# Altium schematic symbol library jetson-orin-baseboard.SchLib: 177 symbols
Pins are listed as number, name and electrical type; pins without a type are passive.

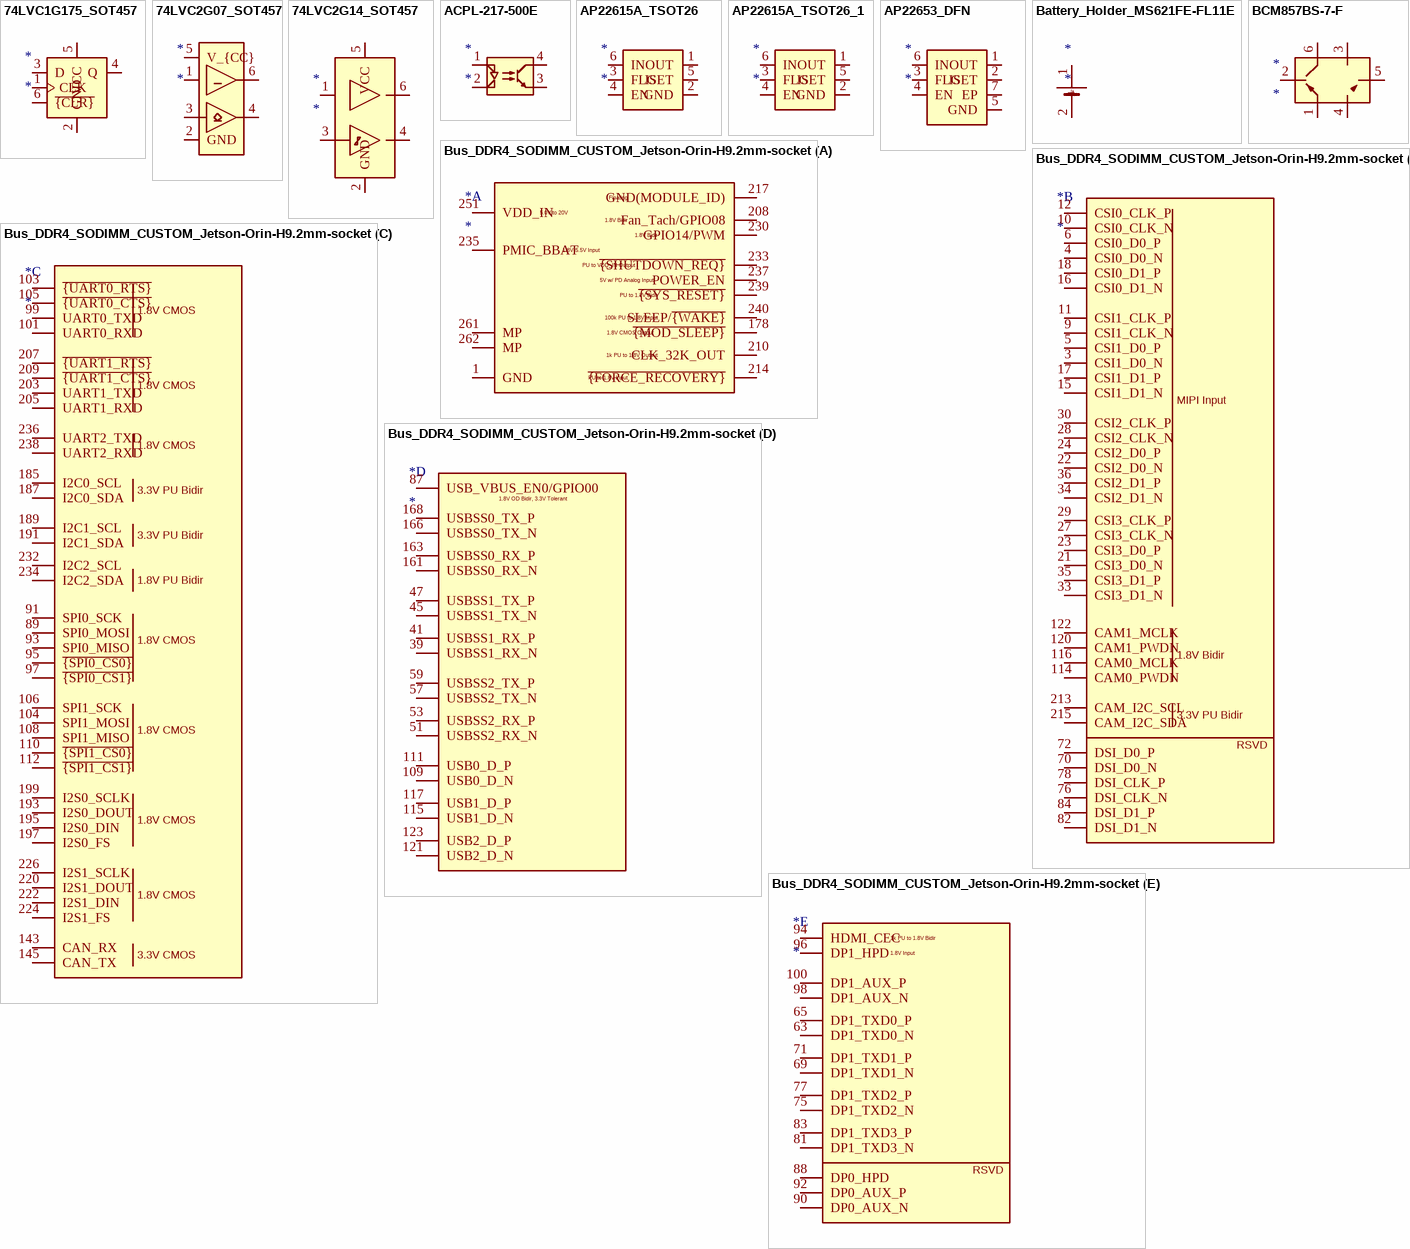
[diagram p0: symbols 74LVC1G175_SOT457 to Bus_DDR4_SODIMM_CUSTOM_Jetson-Orin-H9.2mm-socket]

## 74LVC1G175_SOT457
designator *
pins: 1 CLK, 2 GND, 3 D, 4 Q, 5 VCC, 6 ~{{CLR}}

## 74LVC2G07_SOT457
designator *
pins: 1, 2 GND, 3, 4, 5 V_{CC}, 6

## 74LVC2G14_SOT457
designator *
pins: 1, 2 GND, 3, 4, 5 VCC, 6

## ACPL-217-500E
designator *
pins: 1, 2, 3, 4

## AP22615A_TSOT26
designator *
pins: 1 OUT, 2 GND, 3 FLG, 4 EN, 5 ISET, 6 IN

## AP22615A_TSOT26_1
designator *
pins: 1 OUT, 2 GND, 3 FLG, 4 EN, 5 ISET, 6 IN

## AP22653_DFN
designator *
pins: 1 OUT, 2 ISET, 3 FLG, 4 EN, 5 GND, 6 IN, 7 EP

## Battery_Holder_MS621FE-FL11E
designator *
pins: 1 +, 2 -

## BCM857BS-7-F
designator *
pins: 1, 2, 3, 4, 5, 6

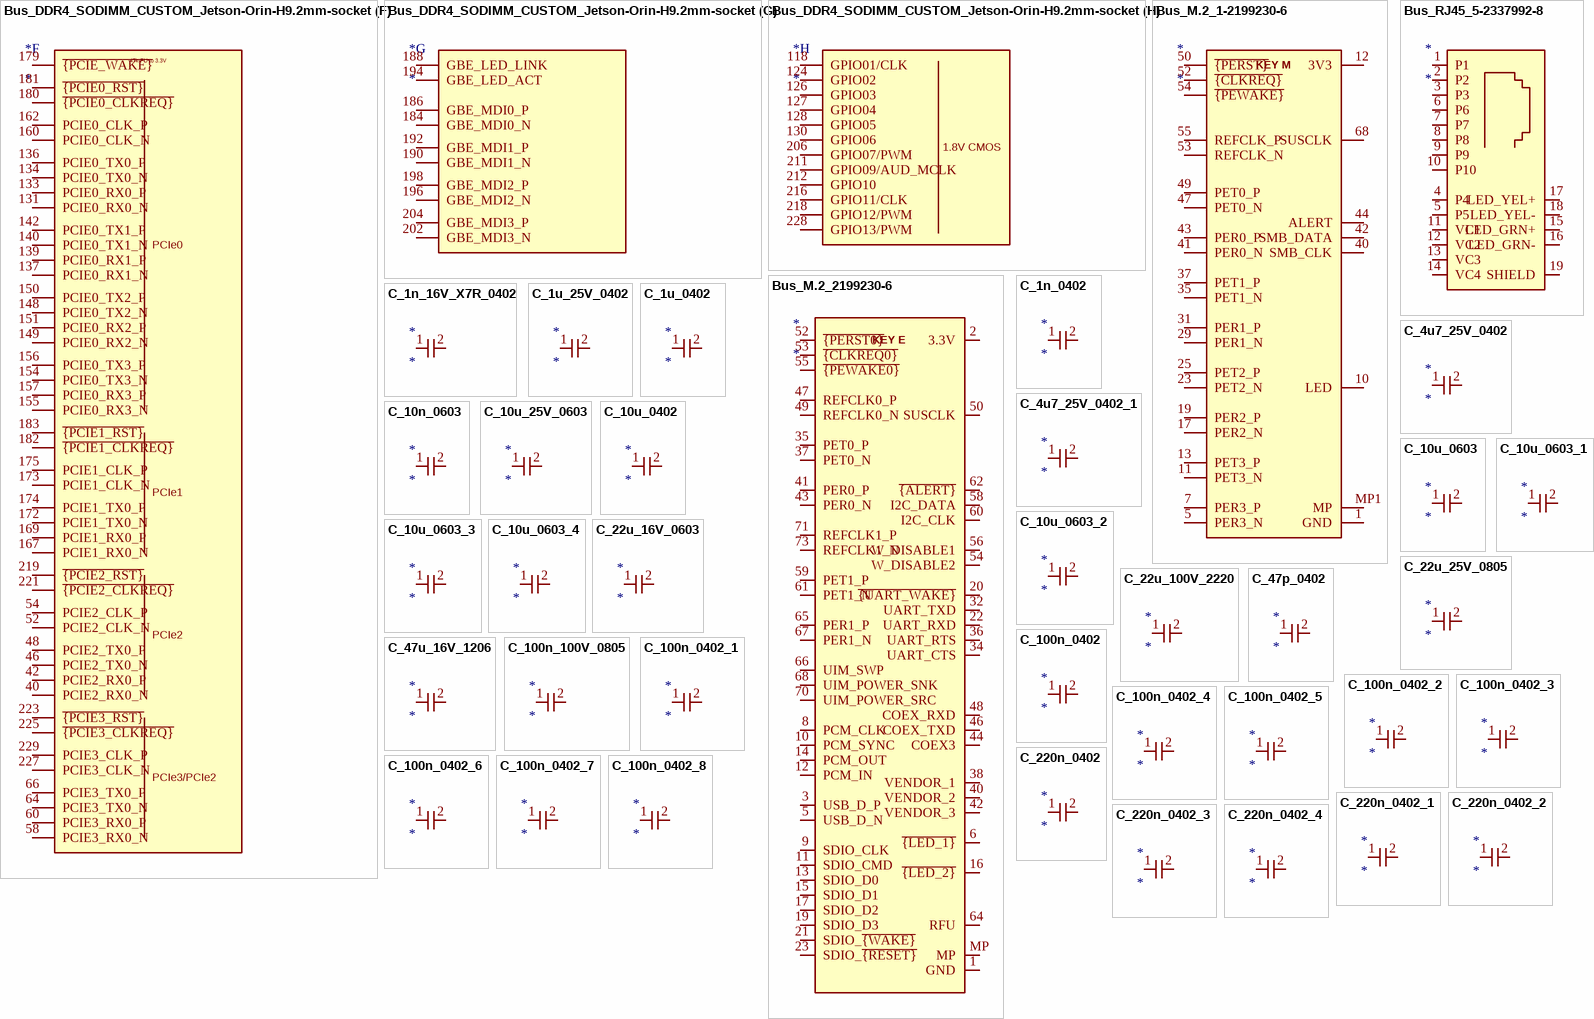
[diagram p1: symbols Bus_DDR4_SODIMM_CUSTOM_Jetson-Orin-H9.2mm-socket to C_220n_0402_4]

## Bus_DDR4_SODIMM_CUSTOM_Jetson-Orin-H9.2mm-socket
designator *
part A pins: 1 GND, 2 GND hidden, 7 GND hidden, 8 GND hidden, 13 GND hidden, 14 GND hidden, 19 GND hidden, 20 GND hidden, 25 GND hidden, 26 GND hidden, 31 GND hidden, 32 GND hidden, 37 GND hidden, 38 GND hidden, 43 GND hidden, 44 GND hidden, 49 GND hidden, 50 GND hidden, 55 GND hidden, 56 GND hidden, 61 GND hidden, 62 GND hidden, 67 GND hidden, 68 GND hidden, 73 GND hidden, 74 GND hidden, 79 GND hidden, 80 GND hidden, 85 GND hidden, 86 GND hidden, 102 GND hidden, 107 GND hidden, 113 GND hidden, 119 GND hidden, 125 GND hidden, 129 GND hidden, 132 GND hidden, 135 GND hidden, 138 GND hidden, 141 GND hidden, 144 GND hidden, 146 GND hidden, 147 GND hidden, 152 GND hidden, 153 GND hidden, 158 GND hidden, 159 GND hidden, 164 GND hidden, 165 GND hidden, 170 GND hidden, 171 GND hidden, 176 GND hidden, 177 GND hidden, 178 ~{{MOD_SLEEP}}, 200 GND hidden, 201 GND hidden, 208 Fan_Tach/GPIO08, 210 CLK_32K_OUT, 214 ~{{FORCE_RECOVERY}}, 217 GND(MODULE_ID), 230 GPIO14/PWM, 231 GND hidden, 233 ~{{SHUTDOWN_REQ}}, 235 PMIC_BBAT, 237 POWER_EN, 239 ~{{SYS_RESET}}, 240 SLEEP/~{{WAKE}}, 241 GND hidden, 242 GND hidden, 243 GND hidden, 244 GND hidden, 245 GND hidden, 246 GND hidden, 247 GND hidden, 248 GND hidden, 249 GND hidden, 250 GND hidden, 251 VDD_IN, 252 VDD_IN hidden, 253 VDD_IN hidden, 254 VDD_IN hidden, 255 VDD_IN hidden, 256 VDD_IN hidden, 257 VDD_IN hidden, 258 VDD_IN hidden, 259 VDD_IN hidden, 260 VDD_IN hidden, 261 MP, 262 MP
part B pins: 3 CSI1_D0_N, 4 CSI0_D0_N, 5 CSI1_D0_P, 6 CSI0_D0_P, 9 CSI1_CLK_N, 10 CSI0_CLK_N, 11 CSI1_CLK_P, 12 CSI0_CLK_P, 15 CSI1_D1_N, 16 CSI0_D1_N, 17 CSI1_D1_P, 18 CSI0_D1_P, 21 CSI3_D0_N, 22 CSI2_D0_N, 23 CSI3_D0_P, 24 CSI2_D0_P, 27 CSI3_CLK_N, 28 CSI2_CLK_N, 29 CSI3_CLK_P, 30 CSI2_CLK_P, 33 CSI3_D1_N, 34 CSI2_D1_N, 35 CSI3_D1_P, 36 CSI2_D1_P, 70 DSI_D0_N, 72 DSI_D0_P, 76 DSI_CLK_N, 78 DSI_CLK_P, 82 DSI_D1_N, 84 DSI_D1_P, 114 CAM0_PWDN, 116 CAM0_MCLK, 120 CAM1_PWDN, 122 CAM1_MCLK, 213 CAM_I2C_SCL, 215 CAM_I2C_SDA
part C pins: 89 SPI0_MOSI, 91 SPI0_SCK, 93 SPI0_MISO, 95 ~{{SPI0_CS0}}, 97 ~{{SPI0_CS1}}, 99 UART0_TXD, 101 UART0_RXD, 103 ~{{UART0_RTS}}, 104 SPI1_MOSI, 105 ~{{UART0_CTS}}, 106 SPI1_SCK, 108 SPI1_MISO, 110 ~{{SPI1_CS0}}, 112 ~{{SPI1_CS1}}, 143 CAN_RX, 145 CAN_TX, 185 I2C0_SCL, 187 I2C0_SDA, 189 I2C1_SCL, 191 I2C1_SDA, 193 I2S0_DOUT, 195 I2S0_DIN, 197 I2S0_FS, 199 I2S0_SCLK, 203 UART1_TXD, 205 UART1_RXD, 207 ~{{UART1_RTS}}, 209 ~{{UART1_CTS}}, 220 I2S1_DOUT, 222 I2S1_DIN, 224 I2S1_FS, 226 I2S1_SCLK, 232 I2C2_SCL, 234 I2C2_SDA, 236 UART2_TXD, 238 UART2_RXD
part D pins: 39 USBSS1_RX_N, 41 USBSS1_RX_P, 45 USBSS1_TX_N, 47 USBSS1_TX_P, 51 USBSS2_RX_N, 53 USBSS2_RX_P, 57 USBSS2_TX_N, 59 USBSS2_TX_P, 87 USB_VBUS_EN0/GPIO00, 109 USB0_D_N, 111 USB0_D_P, 115 USB1_D_N, 117 USB1_D_P, 121 USB2_D_N, 123 USB2_D_P, 161 USBSS0_RX_N, 163 USBSS0_RX_P, 166 USBSS0_TX_N, 168 USBSS0_TX_P
part E pins: 63 DP1_TXD0_N, 65 DP1_TXD0_P, 69 DP1_TXD1_N, 71 DP1_TXD1_P, 75 DP1_TXD2_N, 77 DP1_TXD2_P, 81 DP1_TXD3_N, 83 DP1_TXD3_P, 88 DP0_HPD, 90 DP0_AUX_N, 92 DP0_AUX_P, 94 HDMI_CEC, 96 DP1_HPD, 98 DP1_AUX_N, 100 DP1_AUX_P
part F pins: 40 PCIE2_RX0_N, 42 PCIE2_RX0_P, 46 PCIE2_TX0_N, 48 PCIE2_TX0_P, 52 PCIE2_CLK_N, 54 PCIE2_CLK_P, 58 PCIE3_RX0_N, 60 PCIE3_RX0_P, 64 PCIE3_TX0_N, 66 PCIE3_TX0_P, 131 PCIE0_RX0_N, 133 PCIE0_RX0_P, 134 PCIE0_TX0_N, 136 PCIE0_TX0_P, 137 PCIE0_RX1_N, 139 PCIE0_RX1_P, 140 PCIE0_TX1_N, 142 PCIE0_TX1_P, 148 PCIE0_TX2_N, 149 PCIE0_RX2_N, 150 PCIE0_TX2_P, 151 PCIE0_RX2_P, 154 PCIE0_TX3_N, 155 PCIE0_RX3_N, 156 PCIE0_TX3_P, 157 PCIE0_RX3_P, 160 PCIE0_CLK_N, 162 PCIE0_CLK_P, 167 PCIE1_RX0_N, 169 PCIE1_RX0_P, 172 PCIE1_TX0_N, 173 PCIE1_CLK_N, 174 PCIE1_TX0_P, 175 PCIE1_CLK_P, 179 ~{{PCIE_WAKE}}, 180 ~{{PCIE0_CLKREQ}}, 181 ~{{PCIE0_RST}}, 182 ~{{PCIE1_CLKREQ}}, 183 ~{{PCIE1_RST}}, 219 ~{{PCIE2_RST}}, 221 ~{{PCIE2_CLKREQ}}, 223 ~{{PCIE3_RST}}, 225 ~{{PCIE3_CLKREQ}}, 227 PCIE3_CLK_N, 229 PCIE3_CLK_P
part G pins: 184 GBE_MDI0_N, 186 GBE_MDI0_P, 188 GBE_LED_LINK, 190 GBE_MDI1_N, 192 GBE_MDI1_P, 194 GBE_LED_ACT, 196 GBE_MDI2_N, 198 GBE_MDI2_P, 202 GBE_MDI3_N, 204 GBE_MDI3_P
part H pins: 118 GPIO01/CLK, 124 GPIO02, 126 GPIO03, 127 GPIO04, 128 GPIO05, 130 GPIO06, 206 GPIO07/PWM, 211 GPIO09/AUD_MCLK, 212 GPIO10, 216 GPIO11/CLK, 218 GPIO12/PWM, 228 GPIO13/PWM
part A text: Floating; 5.0V to 20V; 1.8V Bidir; 1.8V-5.5V Input; PU to VDD_IN Output; 5V w/ PD Analog Input; PU to 1.8V Bidir; 100k PU to 1.8V Input; 1.8V CMOS Output; 1k PU to 1.8V Output; PU to 1.8V Input
part B text: MIPI Input; 1.8V Bidir; 3.3V PU Bidir; RSVD
part C text: 1.8V CMOS; 3.3V PU Bidir; 1.8V PU Bidir; 3.3V CMOS
part D text: 1.8V OD Bidir, 3.3V Tolerant
part E text: 1k PU to 1.8V Bidir; 1.8V Input; RSVD
part F text: 47k PU to 3.3V; PCIe0; PCIe1; PCIe2; PCIe3/PCIe2
part H text: 1.8V CMOS

## Bus_M.2_1-2199230-6
designator *
pins: 1 GND, 2 3V3 hidden, 3 GND hidden, 4 3V3 hidden, 5 PER3_N, 6 NC hidden, 7 PER3_P, 8 NC hidden, 9 GND hidden, 10 LED, 11 PET3_N, 12 3V3, 13 PET3_P, 14 3V3 hidden, 15 GND hidden, 16 3V3 hidden, 17 PER2_N, 18 3V3 hidden, 19 PER2_P, 20 NC hidden, 21 GND hidden, 22 NC hidden, 23 PET2_N, 24 NC hidden, 25 PET2_P, 26 NC hidden, 27 GND hidden, 28 NC hidden, 29 PER1_N, 30 NC hidden, 31 PER1_P, 32 NC hidden, 33 GND hidden, 34 NC hidden, 35 PET1_N, 36 NC hidden, 37 PET1_P, 38 NC hidden, 39 GND hidden, 40 SMB_CLK, 41 PER0_N, 42 SMB_DATA, 43 PER0_P, 44 ALERT, 45 GND hidden, 46 NC hidden, 47 PET0_N, 48 NC hidden, 49 PET0_P, 50 ~{{PERST}}, 51 GND hidden, 52 ~{{CLKREQ}}, 53 REFCLK_N, 54 ~{{PEWAKE}}, 55 REFCLK_P, 56 NC hidden, 57 GND hidden, 58 NC hidden, 67 NC hidden, 68 SUSCLK, 69 NC hidden, 70 3V3 hidden, 71 GND hidden, 72 3V3 hidden, 73 GND hidden, 74 3V3 hidden, 75 GND hidden, MP1 MP, MP2 MP hidden
text: KEY M

## Bus_M.2_2199230-6
designator *
pins: 1 GND, 2 3.3V, 3 USB_D_P, 4 3.3V hidden, 5 USB_D_N, 6 ~{{LED_1}}, 7 GND hidden, 8 PCM_CLK, 9 SDIO_CLK, 10 PCM_SYNC, 11 SDIO_CMD, 12 PCM_IN, 13 SDIO_D0, 14 PCM_OUT, 15 SDIO_D1, 16 ~{{LED_2}}, 17 SDIO_D2, 18 GND hidden, 19 SDIO_D3, 20 ~{{UART_WAKE}}, 21 SDIO_~{{WAKE}}, 22 UART_RXD, 23 SDIO_~{{RESET}}, 32 UART_TXD, 33 GND hidden, 34 UART_CTS, 35 PET0_P, 36 UART_RTS, 37 PET0_N, 38 VENDOR_1, 39 GND hidden, 40 VENDOR_2, 41 PER0_P, 42 VENDOR_3, 43 PER0_N, 44 COEX3, 45 GND hidden, 46 COEX_TXD, 47 REFCLK0_P, 48 COEX_RXD, 49 REFCLK0_N, 50 SUSCLK, 51 GND hidden, 52 ~{{PERST0}}, 53 ~{{CLKREQ0}}, 54 W_DISABLE2, 55 ~{{PEWAKE0}}, 56 W_DISABLE1, 57 GND hidden, 58 I2C_DATA, 59 PET1_P, 60 I2C_CLK, 61 PET1_N, 62 ~{{ALERT}}, 63 GND hidden, 64 RFU, 65 PER1_P, 66 UIM_SWP, 67 PER1_N, 68 UIM_POWER_SNK, 69 GND hidden, 70 UIM_POWER_SRC, 71 REFCLK1_P, 72 3.3V hidden, 73 REFCLK1_N, 74 3.3V hidden, 75 GND hidden, MP
text: KEY E

## Bus_RJ45_5-2337992-8
designator *
pins: 1 P1, 2 P2, 3 P3, 4 P4, 5 P5, 6 P6, 7 P7, 8 P8, 9 P9, 10 P10, 11 VC1, 12 VC2, 13 VC3, 14 VC4, 15 LED_GRN+, 16 LED_GRN-, 17 LED_YEL+, 18 LED_YEL-, 19 SHIELD, 20 SHIELD hidden

## C_1n_16V_X7R_0402
designator *
pins: 1, 2

## C_1n_0402
designator *
pins: 1, 2

## C_1u_25V_0402
designator *
pins: 1, 2

## C_1u_0402
designator *
pins: 1, 2

## C_4u7_25V_0402
designator *
pins: 1, 2

## C_4u7_25V_0402_1
designator *
pins: 1, 2

## C_10n_0603
designator *
pins: 1, 2

## C_10u_25V_0603
designator *
pins: 1, 2

## C_10u_0402
designator *
pins: 1, 2

## C_10u_0603
designator *
pins: 1, 2

## C_10u_0603_1
designator *
pins: 1, 2

## C_10u_0603_2
designator *
pins: 1, 2

## C_10u_0603_3
designator *
pins: 1, 2

## C_10u_0603_4
designator *
pins: 1, 2

## C_22u_16V_0603
designator *
pins: 1, 2

## C_22u_25V_0805
designator *
pins: 1, 2

## C_22u_100V_2220
designator *
pins: 1, 2

## C_47p_0402
designator *
pins: 1, 2

## C_47u_16V_1206
designator *
pins: 1, 2

## C_100n_100V_0805
designator *
pins: 1, 2

## C_100n_0402
designator *
pins: 1, 2

## C_100n_0402_1
designator *
pins: 1, 2

## C_100n_0402_2
designator *
pins: 1, 2

## C_100n_0402_3
designator *
pins: 1, 2

## C_100n_0402_4
designator *
pins: 1, 2

## C_100n_0402_5
designator *
pins: 1, 2

## C_100n_0402_6
designator *
pins: 1, 2

## C_100n_0402_7
designator *
pins: 1, 2

## C_100n_0402_8
designator *
pins: 1, 2

## C_220n_0402
designator *
pins: 1, 2

## C_220n_0402_1
designator *
pins: 1, 2

## C_220n_0402_2
designator *
pins: 1, 2

## C_220n_0402_3
designator *
pins: 1, 2

## C_220n_0402_4
designator *
pins: 1, 2

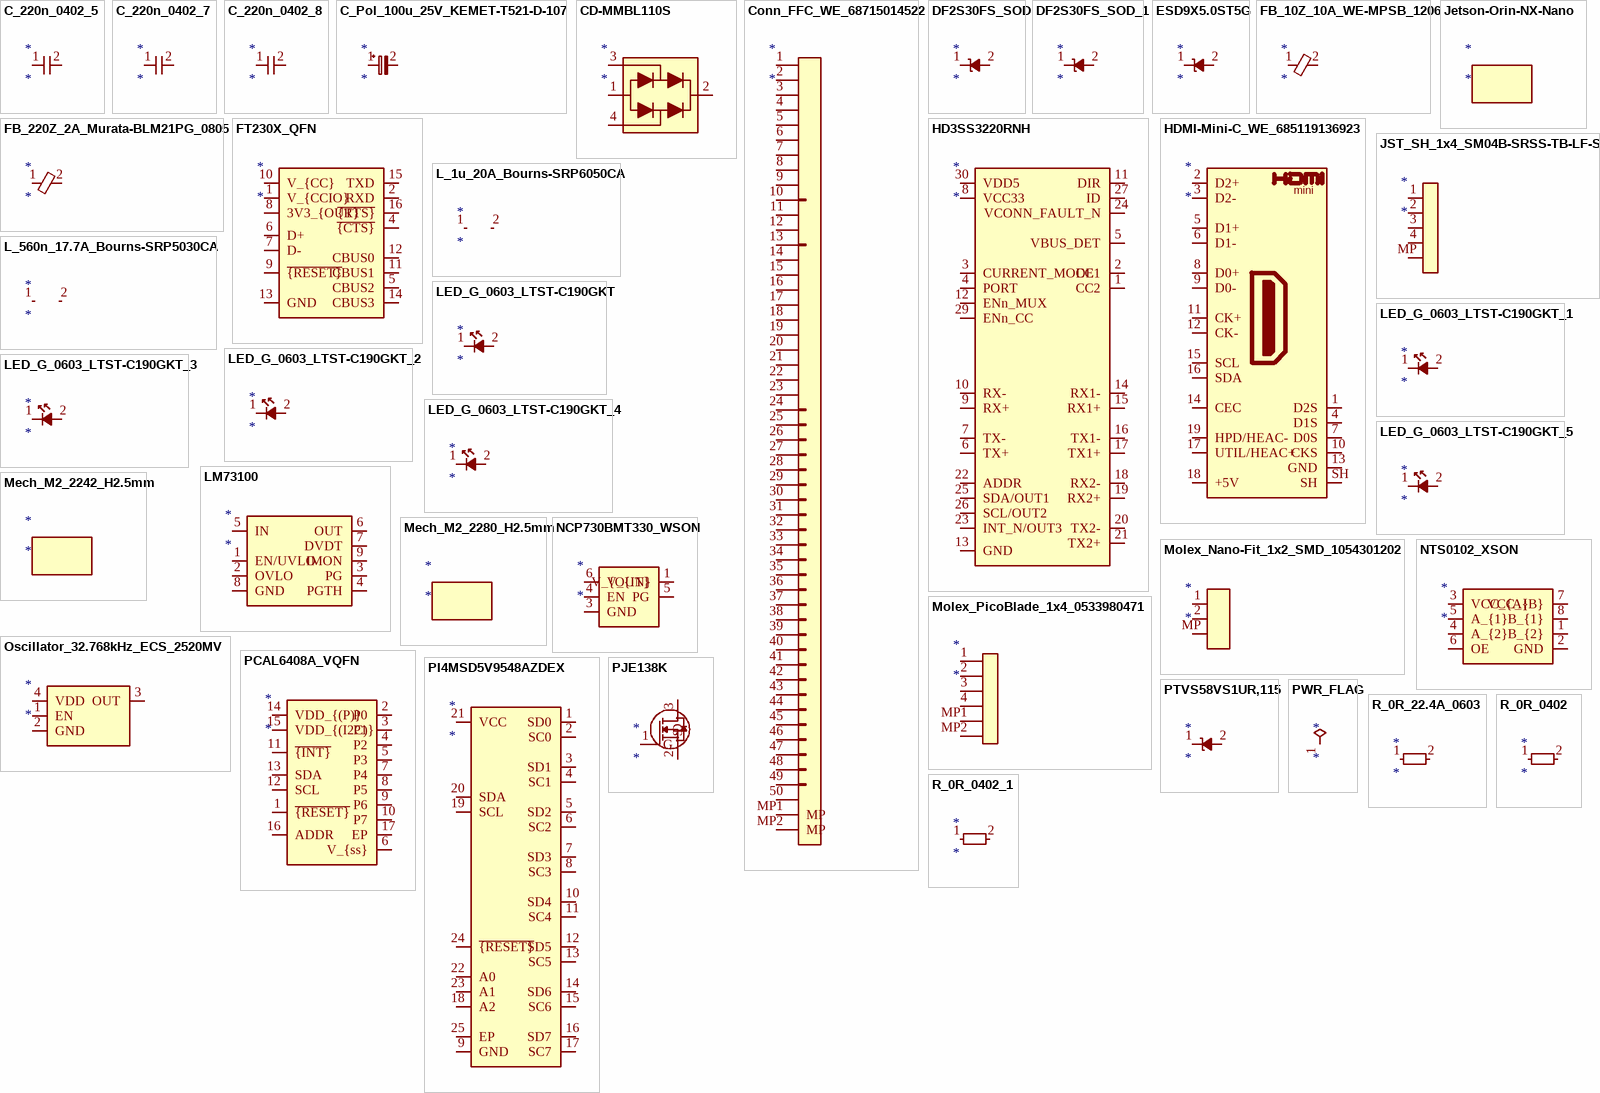
[diagram p2: symbols C_220n_0402_5 to R_0R_0402_1]

## C_220n_0402_5
designator *
pins: 1, 2

## C_220n_0402_7
designator *
pins: 1, 2

## C_220n_0402_8
designator *
pins: 1, 2

## C_Pol_100u_25V_KEMET-T521-D-107
designator *
pins: 1, 2

## CD-MMBL110S
designator *
pins: 1, 2, 3, 4

## Conn_FFC_WE_68715014522
designator *
pins: 1, 2, 3, 4, 5, 6, 7, 8, 9, 10, 11, 12, 13, 14, 15, 16, 17, 18, 19, 20, 21, 22, 23, 24, 25, 26, 27, 28, 29, 30, 31, 32, 33, 34, 35, 36, 37, 38, 39, 40, 41, 42, 43, 44, 45, 46, 47, 48, 49, 50, MP1 MP, MP2 MP

## DF2S30FS_SOD
designator *
pins: 1 C, 2 A

## DF2S30FS_SOD_1
designator *
pins: 1 C, 2 A

## ESD9X5.0ST5G
designator *
pins: 1 C, 2 A

## FB_10Z_10A_WE-MPSB_1206
designator *
pins: 1, 2

## FB_220Z_2A_Murata-BLM21PG_0805
designator *
pins: 1, 2

## FT230X_QFN
designator *
pins: 1 V_{CCIO}, 2 RXD, 3 GND hidden, 4 ~{{CTS}}, 5 CBUS2, 6 D+, 7 D-, 8 3V3_{OUT}, 9 ~{{RESET}}, 10 V_{CC}, 11 CBUS1, 12 CBUS0, 13 GND, 14 CBUS3, 15 TXD, 16 ~{{RTS}}, 17 GND hidden

## HD3SS3220RNH
designator *
pins: 1 CC2, 2 CC1, 3 CURRENT_MODE, 4 PORT, 5 VBUS_DET, 6 TX+, 7 TX-, 8 VCC33, 9 RX+, 10 RX-, 11 DIR, 12 ENn_MUX, 13 GND, 14 RX1-, 15 RX1+, 16 TX1-, 17 TX1+, 18 RX2-, 19 RX2+, 20 TX2-, 21 TX2+, 22 ADDR, 23 INT_N/OUT3, 24 VCONN_FAULT_N, 25 SDA/OUT1, 26 SCL/OUT2, 27 ID, 28 GND hidden, 29 ENn_CC, 30 VDD5, 31 GND hidden

## HDMI-Mini-C_WE_685119136923
designator *
pins: 1 D2S, 2 D2+, 3 D2-, 4 D1S, 5 D1+, 6 D1-, 7 D0S, 8 D0+, 9 D0-, 10 CKS, 11 CK+, 12 CK-, 13 GND, 14 CEC, 15 SCL, 16 SDA, 17 UTIL/HEAC+, 18 +5V, 19 HPD/HEAC-, SH
text: mini

## Jetson-Orin-NX-Nano
designator *

## JST_SH_1x4_SM04B-SRSS-TB-LF-SN
designator *
pins: 1, 2, 3, 4, MP

## L_1u_20A_Bourns-SRP6050CA
designator *
pins: 1, 2

## L_560n_17.7A_Bourns-SRP5030CA
designator *
pins: 1, 2

## LED_G_0603_LTST-C190GKT
designator *
pins: 1 C, 2 A

## LED_G_0603_LTST-C190GKT_1
designator *
pins: 1 C, 2 A

## LED_G_0603_LTST-C190GKT_2
designator *
pins: 1 C, 2 A

## LED_G_0603_LTST-C190GKT_3
designator *
pins: 1 C, 2 A

## LED_G_0603_LTST-C190GKT_4
designator *
pins: 1 C, 2 A

## LED_G_0603_LTST-C190GKT_5
designator *
pins: 1 C, 2 A

## LM73100
designator *
pins: 1 EN/UVLO, 2 OVLO, 3 PG, 4 PGTH, 5 IN, 6 OUT, 7 DVDT, 8 GND, 9 IMON, 10 DNC hidden

## Mech_M2_2242_H2.5mm
designator *

## Mech_M2_2280_H2.5mm
designator *

## Molex_Nano-Fit_1x2_SMD_1054301202
designator *
pins: 1, 2, MP

## Molex_PicoBlade_1x4_0533980471
designator *
pins: 1, 2, 3, 4, MP1, MP2

## NCP730BMT330_WSON
designator *
pins: 1 V_{OUT}, 2 NC hidden, 3 GND, 4 EN, 5 PG, 6 V_{IN}, 7 GND hidden

## NTS0102_XSON
designator *
pins: 1 B_{2}, 2 GND, 3 VCC_{A}, 4 A_{2}, 5 A_{1}, 6 OE, 7 VCC_{B}, 8 B_{1}

## Oscillator_32.768kHz_ECS_2520MV
designator *
pins: 1 EN, 2 GND, 3 OUT, 4 VDD

## PCAL6408A_VQFN
designator *
pins: 1 ~{{RESET}}, 2 P0, 3 P1, 4 P2, 5 P3, 6 V_{ss}, 7 P4, 8 P5, 9 P6, 10 P7, 11 ~{{INT}}, 12 SCL, 13 SDA, 14 VDD_{(P)}, 15 VDD_{(I2C)}, 16 ADDR, 17 EP

## PI4MSD5V9548AZDEX
designator *
pins: 1 SD0, 2 SC0, 3 SD1, 4 SC1, 5 SD2, 6 SC2, 7 SD3, 8 SC3, 9 GND, 10 SD4, 11 SC4, 12 SD5, 13 SC5, 14 SD6, 15 SC6, 16 SD7, 17 SC7, 18 A2, 19 SCL, 20 SDA, 21 VCC, 22 A0, 23 A1, 24 ~{{RESET}}, 25 EP

## PJE138K
designator *
pins: 1 G, 2 S, 3 D

## PTVS58VS1UR,115
designator *
pins: 1 C, 2 A

## PWR_FLAG
designator *  (graphical)
pins: 1 pwr

## R_0R_22.4A_0603
designator *
pins: 1, 2

## R_0R_0402
designator *
pins: 1, 2

## R_0R_0402_1
designator *
pins: 1, 2

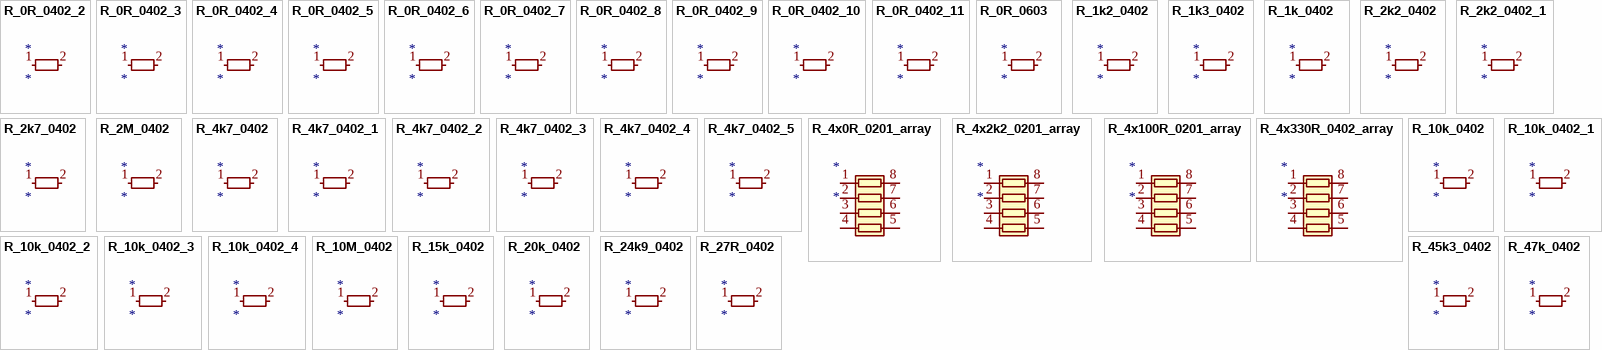
[diagram p3: symbols R_0R_0402_2 to R_47k_0402]

## R_0R_0402_2
designator *
pins: 1, 2

## R_0R_0402_3
designator *
pins: 1, 2

## R_0R_0402_4
designator *
pins: 1, 2

## R_0R_0402_5
designator *
pins: 1, 2

## R_0R_0402_6
designator *
pins: 1, 2

## R_0R_0402_7
designator *
pins: 1, 2

## R_0R_0402_8
designator *
pins: 1, 2

## R_0R_0402_9
designator *
pins: 1, 2

## R_0R_0402_10
designator *
pins: 1, 2

## R_0R_0402_11
designator *
pins: 1, 2

## R_0R_0603
designator *
pins: 1, 2

## R_1k2_0402
designator *
pins: 1, 2

## R_1k3_0402
designator *
pins: 1, 2

## R_1k_0402
designator *
pins: 1, 2

## R_2k2_0402
designator *
pins: 1, 2

## R_2k2_0402_1
designator *
pins: 1, 2

## R_2k7_0402
designator *
pins: 1, 2

## R_2M_0402
designator *
pins: 1, 2

## R_4k7_0402
designator *
pins: 1, 2

## R_4k7_0402_1
designator *
pins: 1, 2

## R_4k7_0402_2
designator *
pins: 1, 2

## R_4k7_0402_3
designator *
pins: 1, 2

## R_4k7_0402_4
designator *
pins: 1, 2

## R_4k7_0402_5
designator *
pins: 1, 2

## R_4x0R_0201_array
designator *
pins: 1 R1.1, 2 R2.1, 3 R3.1, 4 R4.1, 5 R4.2, 6 R3.2, 7 R2.2, 8 R1.2

## R_4x2k2_0201_array
designator *
pins: 1 R1.1, 2 R2.1, 3 R3.1, 4 R4.1, 5 R4.2, 6 R3.2, 7 R2.2, 8 R1.2

## R_4x100R_0201_array
designator *
pins: 1 R1.1, 2 R2.1, 3 R3.1, 4 R4.1, 5 R4.2, 6 R3.2, 7 R2.2, 8 R1.2

## R_4x330R_0402_array
designator *
pins: 1 R1.1, 2 R2.1, 3 R3.1, 4 R4.1, 5 R4.2, 6 R3.2, 7 R2.2, 8 R1.2

## R_10k_0402
designator *
pins: 1, 2

## R_10k_0402_1
designator *
pins: 1, 2

## R_10k_0402_2
designator *
pins: 1, 2

## R_10k_0402_3
designator *
pins: 1, 2

## R_10k_0402_4
designator *
pins: 1, 2

## R_10M_0402
designator *
pins: 1, 2

## R_15k_0402
designator *
pins: 1, 2

## R_20k_0402
designator *
pins: 1, 2

## R_24k9_0402
designator *
pins: 1, 2

## R_27R_0402
designator *
pins: 1, 2

## R_45k3_0402
designator *
pins: 1, 2

## R_47k_0402
designator *
pins: 1, 2

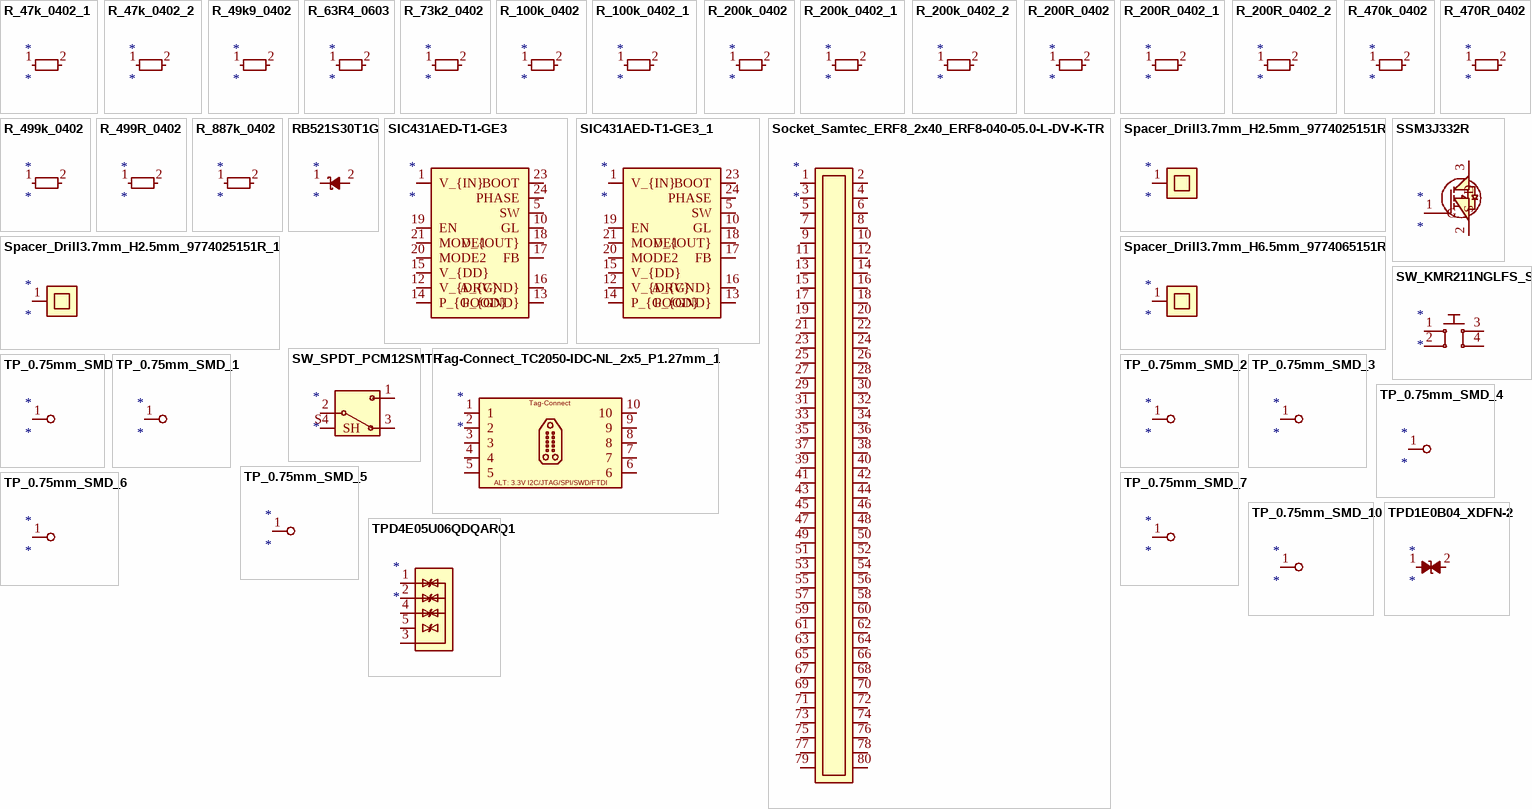
[diagram p4: symbols R_47k_0402_1 to TPD4E05U06QDQARQ1]

## R_47k_0402_1
designator *
pins: 1, 2

## R_47k_0402_2
designator *
pins: 1, 2

## R_49k9_0402
designator *
pins: 1, 2

## R_63R4_0603
designator *
pins: 1, 2

## R_73k2_0402
designator *
pins: 1, 2

## R_100k_0402
designator *
pins: 1, 2

## R_100k_0402_1
designator *
pins: 1, 2

## R_200k_0402
designator *
pins: 1, 2

## R_200k_0402_1
designator *
pins: 1, 2

## R_200k_0402_2
designator *
pins: 1, 2

## R_200R_0402
designator *
pins: 1, 2

## R_200R_0402_1
designator *
pins: 1, 2

## R_200R_0402_2
designator *
pins: 1, 2

## R_470k_0402
designator *
pins: 1, 2

## R_470R_0402
designator *
pins: 1, 2

## R_499k_0402
designator *
pins: 1, 2

## R_499R_0402
designator *
pins: 1, 2

## R_887k_0402
designator *
pins: 1, 2

## RB521S30T1G
designator *
pins: 1 C, 2 A

## SIC431AED-T1-GE3
designator *
pins: 1 V_{IN}, 2 V_{IN} hidden, 3 P_{GND} hidden, 4 P_{GND} hidden, 5 SW, 6 SW hidden, 7 SW hidden, 8 SW hidden, 9 SW hidden, 10 GL, 11 GL hidden, 12 V_{DRV}, 13 P_{GND}, 14 P_{GOOD}, 15 V_{DD}, 16 A_{GND}, 17 FB, 18 V_{OUT}, 19 EN, 20 MODE2, 21 MODE1, 22 V_{IN} hidden, 23 BOOT, 24 PHASE, 25 A_{GND} hidden, 26 V_{IN} hidden, 27 P_{GND} hidden, 28 GL hidden

## SIC431AED-T1-GE3_1
designator *
pins: 1 V_{IN}, 2 V_{IN} hidden, 3 P_{GND} hidden, 4 P_{GND} hidden, 5 SW, 6 SW hidden, 7 SW hidden, 8 SW hidden, 9 SW hidden, 10 GL, 11 GL hidden, 12 V_{DRV}, 13 P_{GND}, 14 P_{GOOD}, 15 V_{DD}, 16 A_{GND}, 17 FB, 18 V_{OUT}, 19 EN, 20 MODE2, 21 MODE1, 22 V_{IN} hidden, 23 BOOT, 24 PHASE, 25 A_{GND} hidden, 26 V_{IN} hidden, 27 P_{GND} hidden, 28 GL hidden

## Socket_Samtec_ERF8_2x40_ERF8-040-05.0-L-DV-K-TR
designator *
pins: 1, 2, 3, 4, 5, 6, 7, 8, 9, 10, 11, 12, 13, 14, 15, 16, 17, 18, 19, 20, 21, 22, 23, 24, 25, 26, 27, 28, 29, 30, 31, 32, 33, 34, 35, 36, 37, 38, 39, 40, 41, 42, 43, 44, 45, 46, 47, 48, 49, 50, 51, 52, 53, 54, 55, 56, 57, 58, 59, 60, 61, 62, 63, 64, 65, 66, 67, 68, 69, 70, 71, 72, 73, 74, 75, 76, 77, 78, 79, 80

## Spacer_Drill3.7mm_H2.5mm_9774025151R
designator *
pins: 1

## Spacer_Drill3.7mm_H2.5mm_9774025151R_1
designator *
pins: 1

## Spacer_Drill3.7mm_H6.5mm_9774065151R
designator *
pins: 1

## SSM3J332R
designator *
pins: 1 G, 2 S, 3 D

## SW_KMR211NGLFS_SMD
designator *
pins: 1, 2, 3, 4

## SW_SPDT_PCM12SMTR
designator *
pins: 1, 2, 3, S1 SH hidden, S2 SH hidden, S3 SH hidden, S4 SH

## Tag-Connect_TC2050-IDC-NL_2x5_P1.27mm_1
designator *
pins: 1, 2, 3, 4, 5, 6, 7, 8, 9, 10
text: Tag-Connect; ALT: 3.3V I2C/JTAG/SPI/SWD/FTDI

## TP_0.75mm_SMD
designator *
pins: 1

## TP_0.75mm_SMD_1
designator *
pins: 1

## TP_0.75mm_SMD_2
designator *
pins: 1

## TP_0.75mm_SMD_3
designator *
pins: 1

## TP_0.75mm_SMD_4
designator *
pins: 1

## TP_0.75mm_SMD_5
designator *
pins: 1

## TP_0.75mm_SMD_6
designator *
pins: 1

## TP_0.75mm_SMD_7
designator *
pins: 1

## TP_0.75mm_SMD_10
designator *
pins: 1

## TPD1E0B04_XDFN-2
designator *
pins: 1 C, 2 A

## TPD4E05U06QDQARQ1
designator *
pins: 1, 2, 3, 4, 5, 6 hidden, 7 hidden, 8 hidden, 9 hidden, 10 hidden

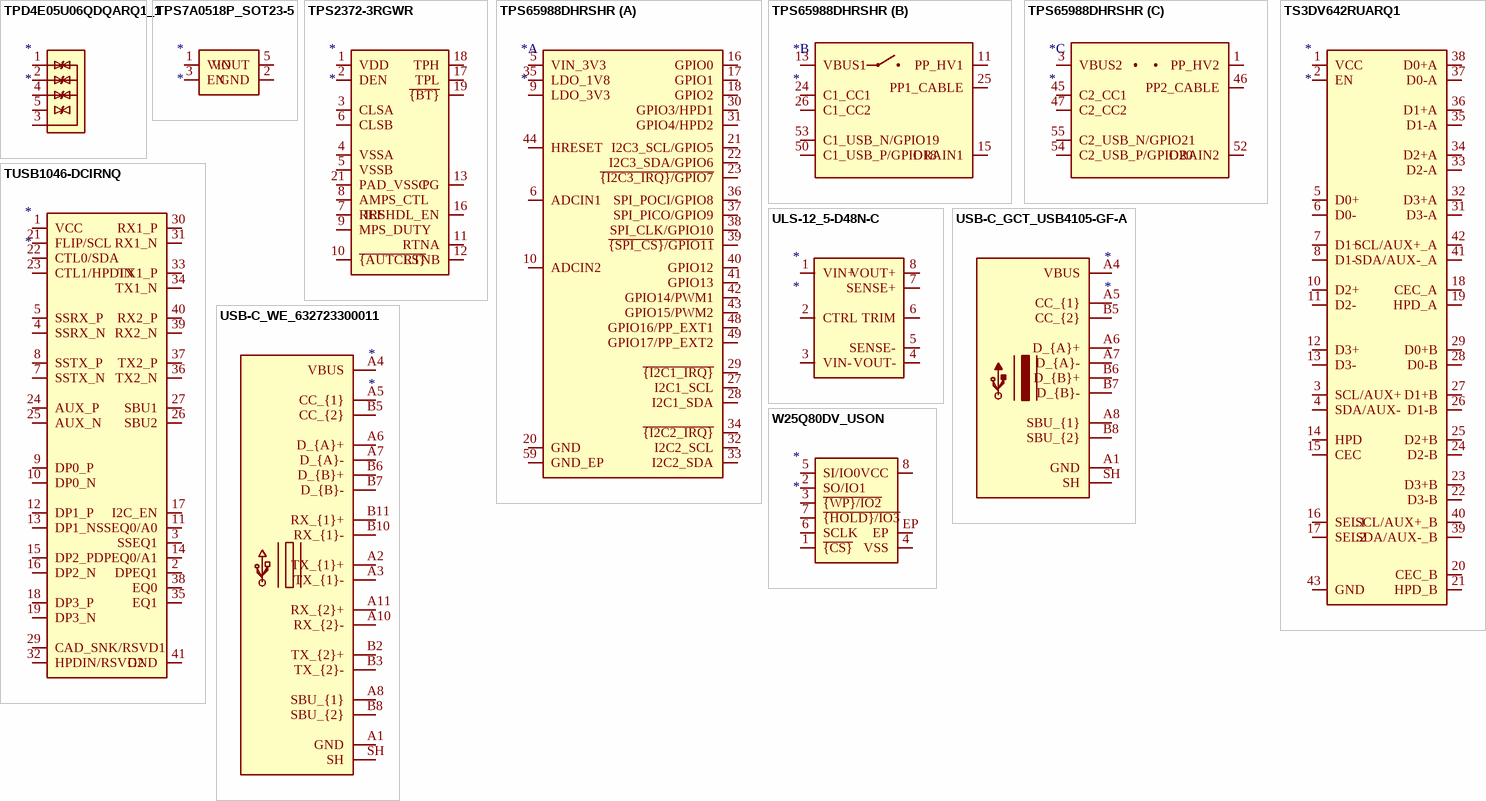
[diagram p5: symbols TPD4E05U06QDQARQ1_1 to W25Q80DV_USON]

## TPD4E05U06QDQARQ1_1
designator *
pins: 1, 2, 3, 4, 5, 6 hidden, 7 hidden, 8 hidden, 9 hidden, 10 hidden

## TPS7A0518P_SOT23-5
designator *
pins: 1 VIN, 2 GND, 3 EN, 4 NC hidden, 5 VOUT

## TPS2372-3RGWR
designator *
pins: 1 VDD, 2 DEN, 3 CLSA, 4 VSSA, 5 VSSB, 6 CLSB, 7 REF, 8 AMPS_CTL, 9 MPS_DUTY, 10 ~{{AUTCLS}}, 11 RTNA, 12 RTNB, 13 PG, 14 NC hidden, 15 NC hidden, 16 IRSHDL_EN, 17 TPL, 18 TPH, 19 ~{{BT}}, 20 NC hidden, 21 PAD_VSSC

## TPS65988DHRSHR
designator *
footprint IC_TPS65987DDHRSHR
part A pins: 5 VIN_3V3, 6 ADCIN1, 9 LDO_3V3, 10 ADCIN2, 16 GPIO0, 17 GPIO1, 18 GPIO2, 20 GND, 21 I2C3_SCL/GPIO5, 22 I2C3_SDA/GPIO6, 23 ~{{I2C3_IRQ}/GPIO7}, 27 I2C1_SCL, 28 I2C1_SDA, 29 ~{{I2C1_IRQ}}, 30 GPIO3/HPD1, 31 GPIO4/HPD2, 32 I2C2_SCL, 33 I2C2_SDA, 34 ~{{I2C2_IRQ}}, 35 LDO_1V8, 36 SPI_POCI/GPIO8, 37 SPI_PICO/GPIO9, 38 SPI_CLK/GPIO10, 39 ~{{SPI_CS}/GPIO11}, 40 GPIO12, 41 GPIO13, 42 GPIO14/PWM1, 43 GPIO15/PWM2, 44 HRESET, 48 GPIO16/PP_EXT1, 49 GPIO17/PP_EXT2, 51 GND hidden, 59 GND_EP
part B pins: 8 DRAIN1 hidden, 11 PP_HV1, 13 VBUS1, 15 DRAIN1, 19 DRAIN1 hidden, 24 C1_CC1, 25 PP1_CABLE, 26 C1_CC2, 50 C1_USB_P/GPIO18, 53 C1_USB_N/GPIO19, 58 DRAIN1 hidden
part C pins: 1 PP_HV2, 3 VBUS2, 7 DRAIN2 hidden, 45 C2_CC1, 46 PP2_CABLE, 47 C2_CC2, 52 DRAIN2, 54 C2_USB_P/GPIO20, 55 C2_USB_N/GPIO21, 56 DRAIN2 hidden, 57 DRAIN2 hidden

## TS3DV642RUARQ1
designator *
pins: 1 VCC, 2 EN, 3 SCL/AUX+, 4 SDA/AUX-, 5 D0+, 6 D0-, 7 D1+, 8 D1-, 9 NC hidden, 10 D2+, 11 D2-, 12 D3+, 13 D3-, 14 HPD, 15 CEC, 16 SEL1, 17 SEL2, 18 CEC_A, 19 HPD_A, 20 CEC_B, 21 HPD_B, 22 D3-B, 23 D3+B, 24 D2-B, 25 D2+B, 26 D1-B, 27 D1+B, 28 D0-B, 29 D0+B, 30 NC hidden, 31 D3-A, 32 D3+A, 33 D2-A, 34 D2+A, 35 D1-A, 36 D1+A, 37 D0-A, 38 D0+A, 39 SDA/AUX-_B, 40 SCL/AUX+_B, 41 SDA/AUX-_A, 42 SCL/AUX+_A, 43 GND

## TUSB1046-DCIRNQ
designator *
pins: 1 VCC, 2 DPEQ1, 3 SSEQ1, 4 SSRX_N, 5 SSRX_P, 6 VCC hidden, 7 SSTX_N, 8 SSTX_P, 9 DP0_P, 10 DP0_N, 11 SSEQ0/A0, 12 DP1_P, 13 DP1_N, 14 DPEQ0/A1, 15 DP2_P, 16 DP2_N, 17 I2C_EN, 18 DP3_P, 19 DP3_N, 20 VCC hidden, 21 FLIP/SCL, 22 CTL0/SDA, 23 CTL1/HPDIN, 24 AUX_P, 25 AUX_N, 26 SBU2, 27 SBU1, 28 VCC hidden, 29 CAD_SNK/RSVD1, 30 RX1_P, 31 RX1_N, 32 HPDIN/RSVD2, 33 TX1_P, 34 TX1_N, 35 EQ1, 36 TX2_N, 37 TX2_P, 38 EQ0, 39 RX2_N, 40 RX2_P, 41 GND

## ULS-12_5-D48N-C
designator *
pins: 1 VIN+, 2 CTRL, 3 VIN-, 4 VOUT-, 5 SENSE-, 6 TRIM, 7 SENSE+, 8 VOUT+

## USB-C_GCT_USB4105-GF-A
designator *
pins: A1 GND, A4 VBUS, A5 CC_{1}, A6 D_{A}+, A7 D_{A}-, A8 SBU_{1}, A9 VBUS hidden, A12 GND hidden, B1 GND hidden, B4 VBUS hidden, B5 CC_{2}, B6 D_{B}+, B7 D_{B}-, B8 SBU_{2}, B9 VBUS hidden, B12 GND hidden, SH

## USB-C_WE_632723300011
designator *
pins: A1 GND, A2 TX_{1}+, A3 TX_{1}-, A4 VBUS, A5 CC_{1}, A6 D_{A}+, A7 D_{A}-, A8 SBU_{1}, A9 VBUS hidden, A10 RX_{2}-, A11 RX_{2}+, A12 GND hidden, B1 GND hidden, B2 TX_{2}+, B3 TX_{2}-, B4 VBUS hidden, B5 CC_{2}, B6 D_{B}+, B7 D_{B}-, B8 SBU_{2}, B9 VBUS hidden, B10 RX_{1}-, B11 RX_{1}+, B12 GND hidden, SH

## W25Q80DV_USON
designator *
pins: 1 ~{{CS}}, 2 SO/IO1, 3 ~{{WP}/IO2}, 4 VSS, 5 SI/IO0, 6 SCLK, 7 ~{{HOLD}/IO3}, 8 VCC, EP